# Altium footprint library m7.PcbLib: 1 footprints
Each footprint in its own frame and in the unit in brackets; x right, y up, seen from the top. Pads: shape width x height; smd on the part's side, far side on the other; paste and mask are expansions set on the pad; w line width, h text height; cw(c..) or ccw(c..) is an arc to the next point about the centre after c.
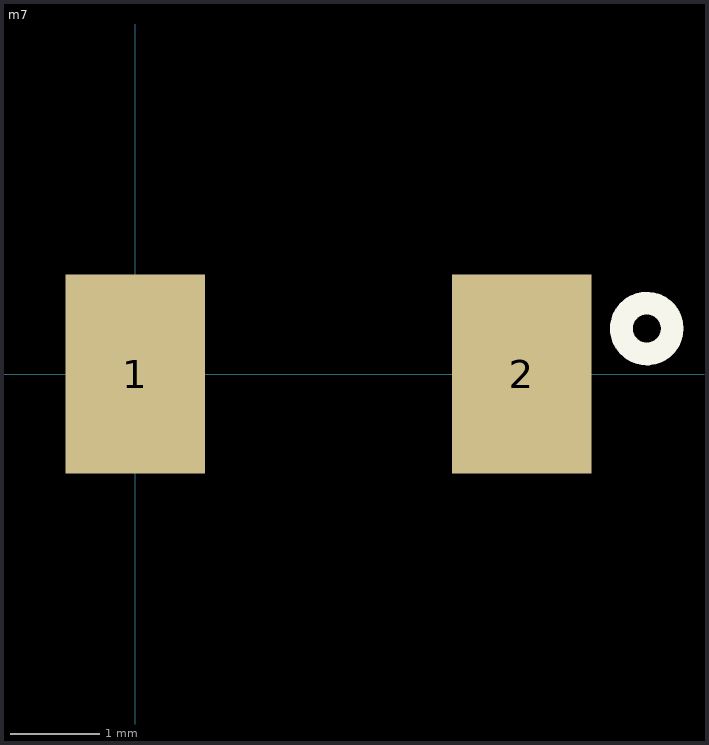
[diagram p0: the footprint, top view; thin cyan lines are the x and y axes]

## m7 [mm]
pads (2):
  rect 1.56x2.22 smd: 1(0,0) 2(4.32,0)
Top Overlay:
  circle w0.254: c5.715,0.508 r0.284